# Altium schematic symbol library ButtonSwitch.SchLib: 1 symbol
Pins are listed as number, name and electrical type; pins without a type are passive.

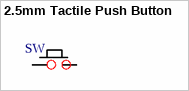
[diagram p0: symbol 2.5mm Tactile Push Button]

## 2.5mm Tactile Push Button
designator SW  (value not drawn)
Value: 2.5mm Tactile Push Button
footprint 2.5mm Tactile Push Button (Footprint not found)
pins: 1, 2